# EAGLE library part FCC-CONNECT-6P (library NA-2025)
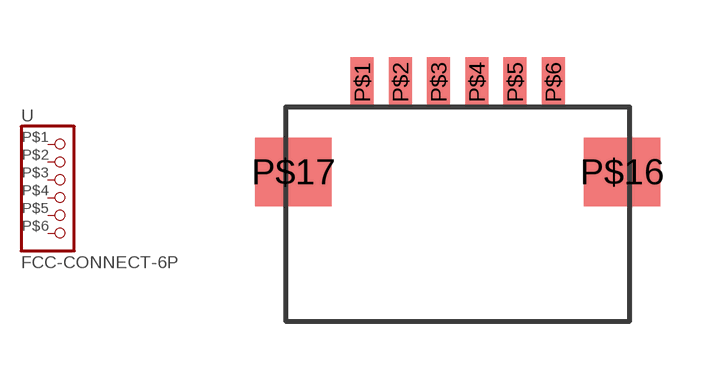
[diagram p34: symbol with the pads of FFC-CONNECT-6P-SMD; footprint FFC-CONNECT-6P-SMD]

Designator prefix -

## FCC-CONNECT-6P  [FFC-CONNECT-6P-SMD]
P$1  1  pas
P$2  2  pas
P$3  3  pas
P$4  4  pas
P$5  5  pas
P$6  6  pas

## Footprint FFC-CONNECT-6P-SMD (pad centres in mm)
smd 0.6 x 1.3: P$1 -7,0.65; P$2 -6,0.65; P$3 -5,0.65; P$4 -4,0.65; P$5 -3,0.65; P$6 -2,0.65
smd 2 x 1.8: P$16 -0.2,-1.7; P$17 -8.8,-1.7